# Altium footprint library CAN_7.5_18.0.PcbLib: 1 footprints
Each footprint in its own frame and in the unit in brackets; x right, y up, seen from the top. Pads: shape width x height; smd on the part's side, far side on the other; paste and mask are expansions set on the pad; w line width, h text height; cw(c..) or ccw(c..) is an arc to the next point about the centre after c.
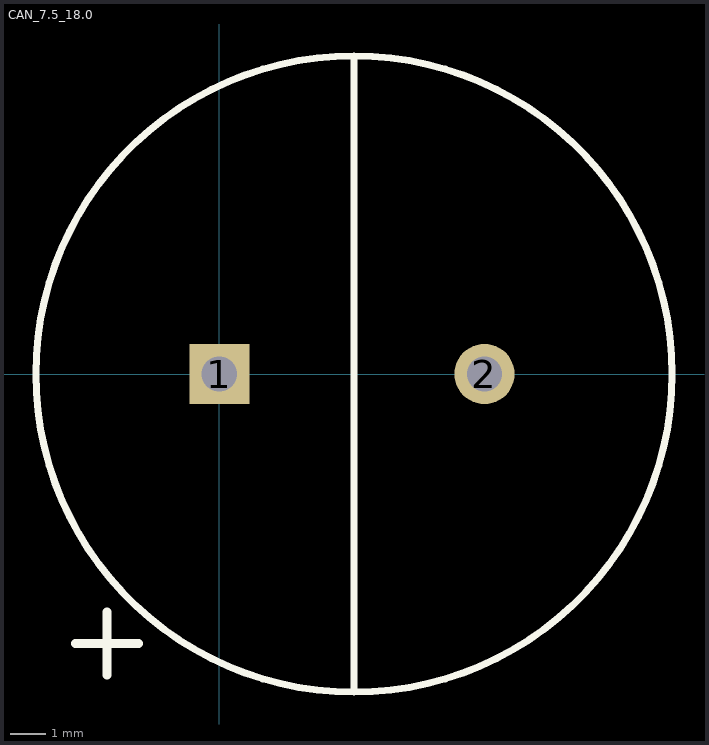
[diagram p0: the footprint, top view; thin cyan lines are the x and y axes]

## CAN_7.5_18.0 [mm] "7.5mm Lead Spacing, 18mm Dia."
pads (2):
  rect 1.7x1.7 hole 1: 1(0,0)
  round 1.7 hole 1: 2(7.5,0)
Top Overlay:
  circle w0.2: c3.81,0 r9
  lines w0.2: 3.81,-8.89 3.81,8.89
  lines w0.254: -4.064,-7.62 -2.286,-7.62 ; -3.175,-8.509 -3.175,-6.731
3D body: height 47.5, standoff 0, extent -5.2,-8.994 12.8,8.994